# EAGLE library part LD39200 (library 1zac)
LDO 2A 3.3v 2 A high PSRR ultra low drop linear regulator with reverse current protection
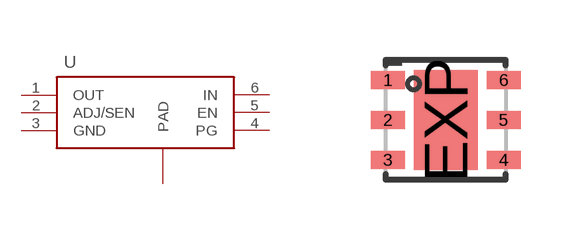
[diagram p9: symbol with the pads of DFN-6(3MMX3MM); footprint DFN-6(3MMX3MM)]

Designator prefix -

## LD39200 (MPN: LD39200PU33R)  [DFN-6(3MMX3MM)]
1  OUT
2  ADJ/SEN
3  GND
4  PG
5  EN
6  IN
EXP  PAD

## Footprint DFN-6(3MMX3MM) (pad centres in mm)
smd 0.85 x 0.45: 1 -1.45,1; 2 -1.45,0; 3 -1.45,-1; 4 1.45,-1; 5 1.45,0; 6 1.45,1
smd 1.6 x 2.5: EXP 0,0